# Altium footprint library USB_MICRO.PcbLib: 1 footprints
Each footprint in its own frame and in the unit in brackets; x right, y up, seen from the top. Pads: shape width x height; smd on the part's side, far side on the other; paste and mask are expansions set on the pad; w line width, h text height; cw(c..) or ccw(c..) is an arc to the next point about the centre after c.
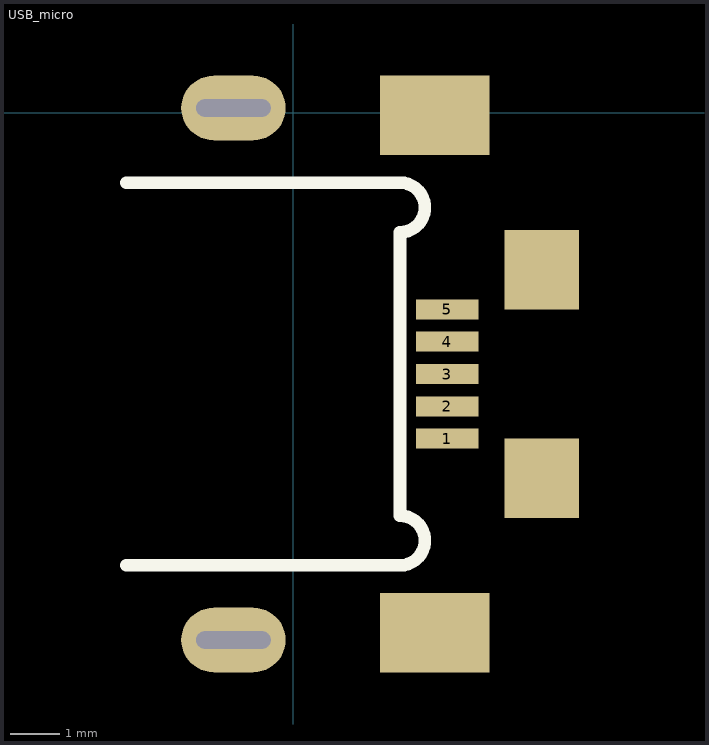
[diagram p0: the footprint, top view; thin cyan lines are the x and y axes]

## USB_micro [mm]
pads (11):
  rect 1.25x0.4 smd: 1(3.1,-6.55) 2(3.1,-5.9) 3(3.1,-5.25) 4(3.1,-4.6) 5(3.1,-3.95)
  oval 2.1x1.3 hole 0.35 slot 1.5 at 0 deg: ""(-1.2,-10.6) ""(-1.2,0.1)
  rect 2.2x1.6 smd: ""(2.85,-10.45) ""(2.85,-0.05)
  rect 1.5x1.6 smd: ""(5,-7.35) ""(5,-3.15)
Top Overlay:
  lines w0.254: -3.35,-9.1 2.15,-9.1 ccw(c2.15,-8.6) 2.15,-8.1 2.15,-2.4 ccw(c2.15,-1.9) 2.15,-1.4 -3.35,-1.4
Mechanical 9:
  text "'.Designator'" at -4.064,-6.35 h1
3D body "CUI_UJ2-MIBH-4-MSMT.step": height 0.9, standoff -1.81, extent -3.35,-10.75 5.35,0.25
3D body: height 0.5, standoff 0, extent -3.35,-11.4 5.9,0.9